# Altium footprint library Sangjian_Pcb.PcbLib: 434 footprints (part 18 of 28)
Each footprint in its own frame and in the unit in brackets; x right, y up, seen from the top. Pads: shape width x height; smd on the part's side, far side on the other; paste and mask are expansions set on the pad; w line width, h text height; cw(c..) or ccw(c..) is an arc to the next point about the centre after c.
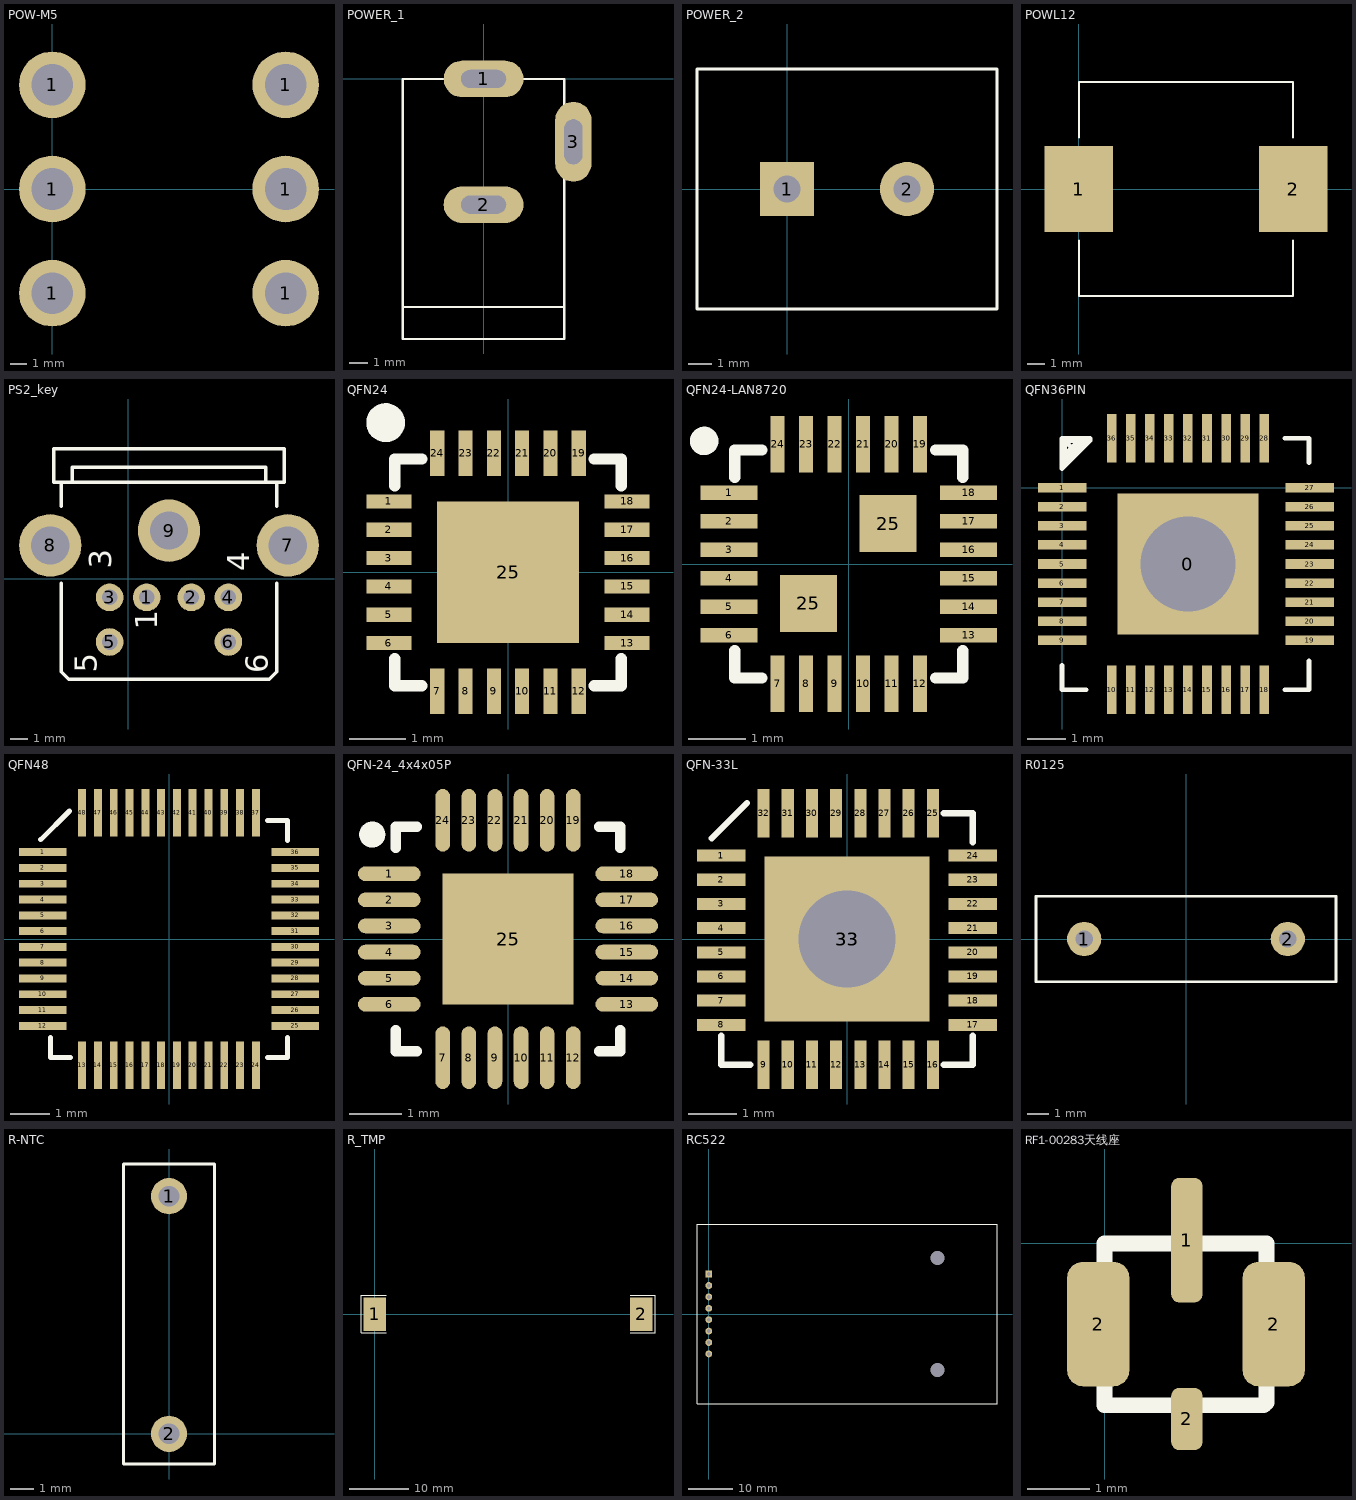
[diagram p17: the footprints below, top view; thin cyan lines are the x and y axes]

## POW-M5 [mm]
pads (6):
  round 4 hole 2.5: 1(0,-6.25) 1(0,0) 1(0,6.25) 1(14,-6.25) 1(14,0) 1(14,6.25)

## POWER_1 [mm]
pads (3):
  oval 4.445x2.032 hole 1 slot 2.5 at 0 deg: 1(0,0) 2(0,-7)
  oval 2.032x4.445 hole 1 slot 2.5 at 90 deg: 3(5,-3.5)
Top Overlay:
  lines w0.127: -4.49,-12.7 4.445,-12.7 ; -4.5,-14.478 4.5,-14.478 4.5,0 -4.5,0 -4.5,-14.478

## POWER_2 [mil]
pads (2):
  rect 90x90 hole 45: 1(0,0)
  round 90 hole 45: 2(200,0)
Top Overlay:
  lines w5: -150,-200 -150,200 350,200 350,-200 -150,-200

## POWL12 [mm]
pads (2):
  rect 4x5 smd: 1(0,0) 2(12.5,0)
Top Overlay:
  lines w0.127: 0,-3 0,-6.25 12.5,-6.25 12.5,-3 ; 0,3 0,6.25 12.5,6.25 12.5,3

## PS2_key [mil]
pads (9):
  round 62 hole 35: 1(41.67,-41.67) 2(141.67,-41.67) 3(-41.67,-41.67) 4(225,-41.67) 5(-41.67,-141.67) 6(225,-141.67)
  round 140 hole 86: 7(358.33,75) 8(-175,75) 9(91.67,108.33)
Bottom Layer:
  lines w10: 224,-142.67 225,-141.67
Top Overlay:
  lines w8: -150,-10.17 -150,-208.33 -133.33,-225 316.67,-225 333.33,-208.33 333.33,-10.17 ; -150,163.06 -150,216.67 ; 333.33,163.06 333.33,216.67 ; -125,216.67 -125,250 308.33,250 308.33,216.67 ; -125,216.67 -166.67,216.67 -166.67,291.67 350,291.67 350,216.67 308.33,216.67 ; -125,216.67 308.33,216.67
  text "5" at -70.9,-211.1 h50
  text "6" at 313.1,-212.43 h50
  text "4" at 271.76,16.9 h50
  text "3" at -37.57,22.24 h50
  text "1" at 65.1,-113.76 h50

## QFN24 [mm]
pads (25):
  rect 0.8x0.25 smd: 1(-2.101,1.25) 2(-2.101,0.75) 3(-2.101,0.25) 4(-2.101,-0.25) 5(-2.101,-0.75) 6(-2.101,-1.25) 13(2.101,-1.25) 14(2.101,-0.75) 15(2.101,-0.25) 16(2.101,0.25) 17(2.101,0.75) 18(2.101,1.25)
  rect 0.25x0.8 smd: 7(-1.25,-2.101) 8(-0.75,-2.101) 9(-0.25,-2.101) 10(0.25,-2.101) 11(0.75,-2.101) 12(1.25,-2.101) 19(1.25,2.101) 20(0.75,2.101) 21(0.25,2.101) 22(-0.25,2.101) 23(-0.75,2.101) 24(-1.25,2.101)
  rect 2.5x2.5 smd: 25(0,0)
Top Overlay:
  circle w0.381: c-2.159,2.642 r0.152
  lines w0.2: -2,-1.525 -2,-2 -1.525,-2 ; -2,1.525 -2,2 -1.525,2 ; 1.525,-2 2,-2 2,-1.525 ; 1.525,2 2,2 2,1.525
3D body "User Library-QFN 24 4x4.step": height 0.9, standoff 0, extent -2.002,-2.002 2.002,2.002

## QFN24-LAN8720 [mm]
pads (26):
  rect 1x0.25 smd: 1(-2.101,1.25) 2(-2.101,0.75) 3(-2.101,0.25) 4(-2.101,-0.25) 5(-2.101,-0.75) 6(-2.101,-1.25) 13(2.101,-1.25) 14(2.101,-0.75) 15(2.101,-0.25) 16(2.101,0.25) 17(2.101,0.75) 18(2.101,1.25)
  rect 0.25x1 smd: 7(-1.25,-2.101) 8(-0.75,-2.101) 9(-0.25,-2.101) 10(0.25,-2.101) 11(0.75,-2.101) 12(1.25,-2.101) 19(1.25,2.101) 20(0.75,2.101) 21(0.25,2.101) 22(-0.25,2.101) 23(-0.75,2.101) 24(-1.25,2.101)
  rect 1x1 smd: 25(-0.709,-0.69) 25(0.691,0.71)
Top Overlay:
  circle w0.25: c-2.538,2.159 r0.125
  lines w0.2: -2,-1.525 -2,-2 -1.525,-2 ; -2,1.525 -2,2 -1.525,2 ; 1.525,-2 2,-2 2,-1.525 ; 1.525,2 2,2 2,1.525

## QFN36PIN [mm]
pads (37):
  rect 3.7x3.7 hole 2.5: 0(3.302,-2)
  rect 1.27x0.25 smd: 1(0,0) 2(0,-0.5) 3(0,-1) 4(0,-1.5) 5(0,-2) 6(0,-2.5) 7(0,-3) 8(0,-3.5) 9(0,-4) 19(6.502,-4) 20(6.502,-3.5) 21(6.502,-3) 22(6.502,-2.5) 23(6.502,-2) 24(6.502,-1.5) 25(6.502,-1) 26(6.502,-0.5) 27(6.502,0)
  rect 0.25x1.27 smd: 10(1.302,-5.302) 11(1.802,-5.302) 12(2.302,-5.302) 13(2.802,-5.302) 14(3.302,-5.302) 15(3.802,-5.302) 16(4.302,-5.302) 17(4.802,-5.302) 18(5.302,-5.302) 28(5.302,1.302) 29(4.802,1.302) 30(4.302,1.302) 31(3.802,1.302) 32(3.302,1.302) 33(2.802,1.302) 34(2.302,1.302) 35(1.802,1.302) 36(1.302,1.302)
Top Overlay:
  lines w0.127: 0,-4.667 0,-5.302 0.635,-5.302 ; 0.254,1.049 0.065,1.238 0.064,1.238 ; 0.508,1.175 0,0.667 0,1.302 ; 5.842,-5.302 6.477,-5.302 6.477,-4.54 ; 5.842,1.302 6.477,1.302 6.477,0.667 ; 0,1.302 0.064,1.238 ; 0,1.302 0.508,1.302 ; 0.064,1.238 0.064,0.92 0.095,0.89 ; 0.064,1.238 0.73,1.238 ; 0.095,0.89 0.507,1.302 ; 0.095,0.89 0,0.795 0,0.508 0.73,1.238 ; 0.095,0.89 0.095,0.667 0.73,1.302 ; 0.507,1.302 0.73,1.302 ; 0.508,1.302 0.73,1.302 ; 0.73,1.238 0.73,1.302

## QFN48 [mm]
pads (48):
  rect 1.2x0.2 smd: 1(-3.2,2.2) 2(-3.2,1.8) 3(-3.2,1.4) 4(-3.2,1) 5(-3.2,0.6) 6(-3.2,0.2) 7(-3.2,-0.2) 8(-3.2,-0.6) 9(-3.2,-1) 10(-3.2,-1.4) 11(-3.2,-1.8) 12(-3.2,-2.2) 25(3.2,-2.2) 26(3.2,-1.8) 27(3.2,-1.4) 28(3.2,-1) 29(3.2,-0.6) 30(3.2,-0.2) 31(3.2,0.2) 32(3.2,0.6) 33(3.2,1) 34(3.2,1.4) 35(3.2,1.8) 36(3.2,2.2)
  rect 0.2x1.2 smd: 13(-2.2,-3.2) 14(-1.8,-3.2) 15(-1.4,-3.2) 16(-1,-3.2) 17(-0.6,-3.2) 18(-0.2,-3.2) 19(0.2,-3.2) 20(0.6,-3.2) 21(1,-3.2) 22(1.4,-3.2) 23(1.8,-3.2) 24(2.2,-3.2) 37(2.2,3.2) 38(1.8,3.2) 39(1.4,3.2) 40(1,3.2) 41(0.6,3.2) 42(0.2,3.2) 43(-0.2,3.2) 44(-0.6,3.2) 45(-1,3.2) 46(-1.4,3.2) 47(-1.8,3.2) 48(-2.2,3.2)
Top Overlay:
  lines w0.127: -3.251,2.515 -2.521,3.245 ; -3,-3 -2.5,-3 ; -3,-2.997 -3,-2.5 ; 2.5,-3 2.997,-3 ; 2.5,3 3,3 ; 3,-3 3,-2.5 ; 3,2.5 3,2.997

## QFN-24_4x4x05P [mm]
pads (25):
  oval 1.2x0.28 smd mask+0.051: 1(-2.273,1.25) 2(-2.273,0.75) 3(-2.273,0.25) 4(-2.273,-0.25) 5(-2.273,-0.75) 6(-2.273,-1.25) 13(2.273,-1.25) 14(2.273,-0.75) 15(2.273,-0.25) 16(2.273,0.25) 17(2.273,0.75) 18(2.273,1.25)
  oval 0.28x1.2 smd mask+0.051: 7(-1.25,-2.273) 8(-0.75,-2.273) 9(-0.25,-2.273) 10(0.25,-2.273) 11(0.75,-2.273) 12(1.25,-2.273) 19(1.25,2.273) 20(0.75,2.273) 21(0.25,2.273) 22(-0.25,2.273) 23(-0.75,2.273) 24(-1.25,2.273)
  rect 2.5x2.5 smd: 25(0,0)
Top Overlay:
  circle w0.25: c-2.6,2 r0.125
  lines w0.2: -2.15,-1.75 -2.15,-2.15 -1.75,-2.15 ; -2.15,1.75 -2.15,2.15 -1.75,2.15 ; 1.75,-2.15 2.15,-2.15 2.15,-1.75 ; 1.75,2.15 2.15,2.15 2.15,1.75
3D body: height 0.9, standoff 0.01, extent -2,-2 2,2

## QFN-33L [mm]
pads (34):
  rect 1x0.25 smd: 1(-2.6,1.725) 2(-2.6,1.225) 3(-2.6,0.725) 4(-2.6,0.225) 5(-2.6,-0.275) 6(-2.6,-0.775) 7(-2.6,-1.275) 8(-2.6,-1.775) 17(2.6,-1.775) 18(2.6,-1.275) 19(2.6,-0.775) 20(2.6,-0.275) 21(2.6,0.225) 22(2.6,0.725) 23(2.6,1.225) 24(2.6,1.725)
  rect 0.25x1 smd: 9(-1.725,-2.6) 10(-1.225,-2.6) 11(-0.725,-2.6) 12(-0.225,-2.6) 13(0.275,-2.6) 14(0.775,-2.6) 15(1.275,-2.6) 16(1.775,-2.6) 25(1.775,2.6) 26(1.275,2.6) 27(0.775,2.6) 28(0.275,2.6) 29(-0.225,2.6) 30(-0.725,2.6) 31(-1.225,2.6) 32(-1.725,2.6)
  rect 3.4x3.4 smd: 33(0,0)
  round 3 hole 2: 33(0,0)
Top Overlay:
  lines w0.127: -2.794,2.083 -2.064,2.813 ; -2.6,-2 -2.6,-2.6 -2,-2.6 ; 2,-2.6 2.6,-2.6 2.6,-2 ; 2,2.6 2.6,2.6 2.6,2

## R0125 [mm]
pads (2):
  round 1.6 hole 0.8: 1(-4.75,0) 2(4.75,0)
Top Overlay:
  lines w0.127: -7,-2 -7,2 7,2 7,-2 -7,-2

## R-NTC [mil]
pads (2):
  round 60 hole 34: 1(0,393.7) 2(0,0)
Top Overlay:
  lines w5: -75,-50 -75,447 75,447 75,-50 -75,-50

## R_TMP [mil]
pads (2):
  rect 150x220 smd: 1(0,0) 2(1771.65,0)
Top Overlay:
  lines w5: 76.77,125 -89.57,125 -89.57,-122.05 77.76,-122.05 ; 1695.87,-122.05 1863.19,-122.05 1863.19,125 1696.85,125

## RC522 [mil]
pads (10):
  rect 60x60 hole 34: 1(0,350)
  round 60 hole 34: 2(0,250) 3(0,150) 4(0,50) 5(0,-50) 6(0,-150) 7(0,-250) 8(0,-350)
  round 118.11 hole 125.98: ""(2007.87,-492.13) ""(2007.87,492.13)
Top Overlay:
  lines w5: -103.35,-787.4 2530.51,-787.4 2530.51,787.4 -103.35,787.4 -103.35,-787.4

## RF1-00283天线座 [mm]
pads (4):
  rrect50% 0.5x2 smd: 1(1.321,0.051)
  rrect50% 1x2 smd: 2(-0.102,-1.295) 2(2.718,-1.295)
  rrect50% 0.5x1 smd: 2(1.321,-2.819)
Top Overlay:
  lines w0.254: 2.6,-2.464 2.6,0 ; 2.6,0 2.6,-2.556 2.556,-2.6 0,-2.6 0,0 2.6,0